# Altium footprint library N25Q128A13EF840F.PcbLib: 3 footprints
Each footprint in its own frame and in the unit in brackets; x right, y up, seen from the top. Pads: shape width x height; smd on the part's side, far side on the other; paste and mask are expansions set on the pad; w line width, h text height; cw(c..) or ccw(c..) is an arc to the next point about the centre after c.
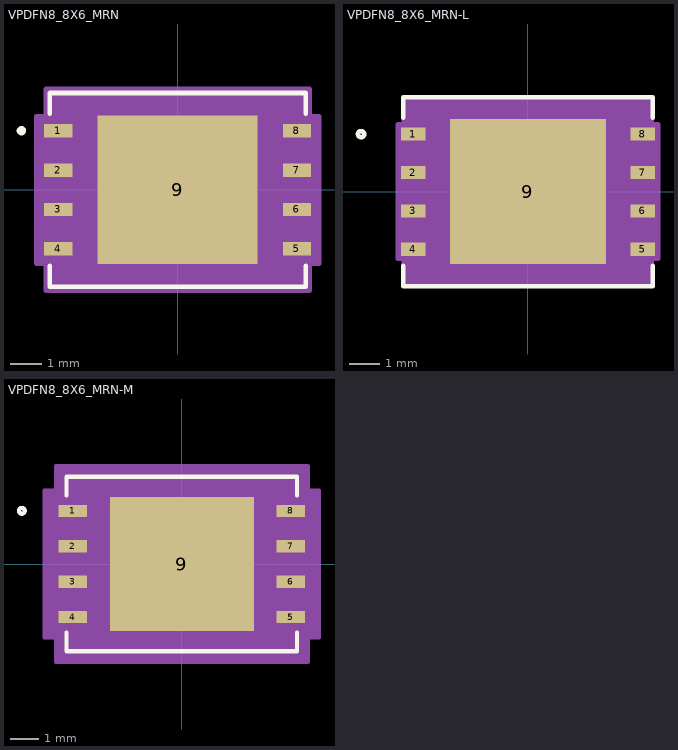
[diagram p0: the footprints below, top view; thin cyan lines are the x and y axes]

## VPDFN8_8X6_MRN [mil]
pads (9):
  rect 36x17 smd paste+0 mask+0: 1(-151.5,75) 2(-151.5,25) 3(-151.5,-25) 4(-151.5,-75) 5(151.5,-75) 6(151.5,-25) 7(151.5,25) 8(151.5,75)
  rect 203x189 smd paste+0 mask+0: 9(0,0)
Top Overlay:
  circle w6: c-198.5,75 r3
  lines w6: -162.5,-96.6 -162.5,-123 162.5,-123 162.5,-96.6 ; -162.5,96.6 -162.5,123 162.5,123 162.5,96.6
Top Paste:
  region: -54.69,90.56 -97.56,90.56 -97.56,35.44 -54.69,35.44
  region: -54.69,27.56 -97.56,27.56 -97.56,-27.56 -54.69,-27.56
  region: -54.69,-35.44 -97.56,-35.44 -97.56,-90.56 -54.69,-90.56
  region: -3.94,90.56 -46.81,90.56 -46.81,35.44 -3.94,35.44
  region: -3.94,27.56 -46.81,27.56 -46.81,-27.56 -3.94,-27.56
  region: -3.94,-35.44 -46.81,-35.44 -46.81,-90.56 -3.94,-90.56
  region: 46.81,90.56 3.94,90.56 3.94,35.44 46.81,35.44
  region: 46.81,27.56 3.94,27.56 3.94,-27.56 46.81,-27.56
  region: 46.81,-35.44 3.94,-35.44 3.94,-90.56 46.81,-90.56
  region: 97.56,90.56 54.69,90.56 54.69,35.44 97.56,35.44
  region: 97.56,27.56 54.69,27.56 54.69,-27.56 97.56,-27.56
  region: 97.56,-35.44 54.69,-35.44 54.69,-90.56 97.56,-90.56
Mechanical 13:
  circle w6: c-133.5,75 r0
  lines w0: -12,118 ccw(c0,118) 12,118
  lines w1: -157.5,-118 157.5,-118 157.5,118 -157.5,118 -157.5,-118
Mechanical 15:
  region: -167.5,-93.5 -179.5,-93.5 -179.5,93.5 -167.5,93.5 -167.5,128 167.5,128 167.5,93.5 179.5,93.5 179.5,-93.5 167.5,-93.5 167.5,-128 -167.5,-128
  lines w6: -179.5,-93.5 -179.5,93.5 -167.5,93.5 -167.5,128 167.5,128 167.5,93.5 179.5,93.5 179.5,-93.5 167.5,-93.5 167.5,-128 -167.5,-128 -167.5,-93.5 -179.5,-93.5
3D body "VPDFN8_8X6_MRN.step": height 39.09, standoff 0, extent -157.52,-117.99 157.52,117.99

## VPDFN8_8X6_MRN-L [mil]
pads (9):
  rect 32x17 smd paste+0 mask+0: 1(-149.5,75) 2(-149.5,25) 3(-149.5,-25) 4(-149.5,-75) 5(149.5,-75) 6(149.5,-25) 7(149.5,25) 8(149.5,75)
  rect 203x189 smd paste+0 mask+0: 9(0,0)
Top Overlay:
  circle w6: c-217.5,75 r4
  lines w6: -162.5,-96.6 -162.5,-123 162.5,-123 162.5,-96.6 ; -162.5,96.6 -162.5,123 162.5,123 162.5,96.6
Top Paste:
  region: -54.69,90.56 -97.56,90.56 -97.56,35.44 -54.69,35.44
  region: -54.69,27.56 -97.56,27.56 -97.56,-27.56 -54.69,-27.56
  region: -54.69,-35.44 -97.56,-35.44 -97.56,-90.56 -54.69,-90.56
  region: -3.94,90.56 -46.81,90.56 -46.81,35.44 -3.94,35.44
  region: -3.94,27.56 -46.81,27.56 -46.81,-27.56 -3.94,-27.56
  region: -3.94,-35.44 -46.81,-35.44 -46.81,-90.56 -3.94,-90.56
  region: 46.81,90.56 3.94,90.56 3.94,35.44 46.81,35.44
  region: 46.81,27.56 3.94,27.56 3.94,-27.56 46.81,-27.56
  region: 46.81,-35.44 3.94,-35.44 3.94,-90.56 46.81,-90.56
  region: 97.56,90.56 54.69,90.56 54.69,35.44 97.56,35.44
  region: 97.56,27.56 54.69,27.56 54.69,-27.56 97.56,-27.56
  region: 97.56,-35.44 54.69,-35.44 54.69,-90.56 97.56,-90.56
Mechanical 13:
  circle w0: c-133.5,75 r3
  lines w0: -12,118 ccw(c0,118) 12,118
  lines w1: -157.5,-118 157.5,-118 157.5,118 -157.5,118 -157.5,-118
Mechanical 15:
  region: -161.5,-87.5 -169.5,-87.5 -169.5,87.5 -161.5,87.5 -161.5,122 161.5,122 161.5,87.5 169.5,87.5 169.5,-87.5 161.5,-87.5 161.5,-122 -161.5,-122
  lines w6: -169.5,-87.5 -169.5,87.5 -161.5,87.5 -161.5,122 161.5,122 161.5,87.5 169.5,87.5 169.5,-87.5 161.5,-87.5 161.5,-122 -161.5,-122 -161.5,-87.5 -169.5,-87.5
3D body "VPDFN8_8X6_MRN.step": height 39.09, standoff 0, extent -157.52,-117.99 157.52,117.99

## VPDFN8_8X6_MRN-M [mil]
pads (9):
  rect 40x17 smd paste+0 mask+0: 1(-153.5,75) 2(-153.5,25) 3(-153.5,-25) 4(-153.5,-75) 5(153.5,-75) 6(153.5,-25) 7(153.5,25) 8(153.5,75)
  rect 203x189 smd paste+0 mask+0: 9(0,0)
Top Overlay:
  circle w6: c-225.5,75 r4
  lines w6: -162.5,-96.6 -162.5,-123 162.5,-123 162.5,-96.6 ; -162.5,96.6 -162.5,123 162.5,123 162.5,96.6
Top Paste:
  region: -54.69,90.56 -97.56,90.56 -97.56,35.44 -54.69,35.44
  region: -54.69,27.56 -97.56,27.56 -97.56,-27.56 -54.69,-27.56
  region: -54.69,-35.44 -97.56,-35.44 -97.56,-90.56 -54.69,-90.56
  region: -3.94,90.56 -46.81,90.56 -46.81,35.44 -3.94,35.44
  region: -3.94,27.56 -46.81,27.56 -46.81,-27.56 -3.94,-27.56
  region: -3.94,-35.44 -46.81,-35.44 -46.81,-90.56 -3.94,-90.56
  region: 46.81,90.56 3.94,90.56 3.94,35.44 46.81,35.44
  region: 46.81,27.56 3.94,27.56 3.94,-27.56 46.81,-27.56
  region: 46.81,-35.44 3.94,-35.44 3.94,-90.56 46.81,-90.56
  region: 97.56,90.56 54.69,90.56 54.69,35.44 97.56,35.44
  region: 97.56,27.56 54.69,27.56 54.69,-27.56 97.56,-27.56
  region: 97.56,-35.44 54.69,-35.44 54.69,-90.56 97.56,-90.56
Mechanical 13:
  circle w0: c-133.5,75 r3
  lines w0: -12,118 ccw(c0,118) 12,118
  lines w1: -157.5,-118 157.5,-118 157.5,118 -157.5,118 -157.5,-118
Mechanical 15:
  region: -177.5,-103.5 -193.5,-103.5 -193.5,103.5 -177.5,103.5 -177.5,138 177.5,138 177.5,103.5 193.5,103.5 193.5,-103.5 177.5,-103.5 177.5,-138 -177.5,-138
  lines w6: -193.5,-103.5 -193.5,103.5 -177.5,103.5 -177.5,138 177.5,138 177.5,103.5 193.5,103.5 193.5,-103.5 177.5,-103.5 177.5,-138 -177.5,-138 -177.5,-103.5 -193.5,-103.5
3D body "VPDFN8_8X6_MRN.step": height 39.09, standoff 0, extent -157.52,-117.99 157.52,117.99